# Altium footprint library Infineon_BC847C_1.PcbLib: 1 footprints
Each footprint in its own frame and in the unit in brackets; x right, y up, seen from the top. Pads: shape width x height; smd on the part's side, far side on the other; paste and mask are expansions set on the pad; w line width, h text height; cw(c..) or ccw(c..) is an arc to the next point about the centre after c.
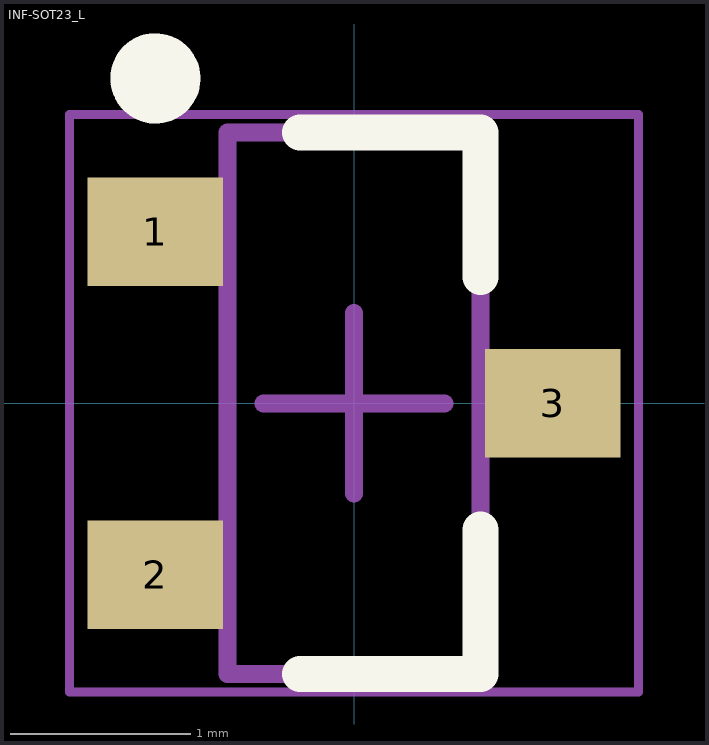
[diagram p0: the footprint, top view; thin cyan lines are the x and y axes]

## INF-SOT23_L [mm] "SOT23, 3-Leads, Body 2.9x1.3 mm, Pitch 0.95 mm, IPC High Density"
height 1.1
pads (3):
  rect 0.75x0.6 smd: 1(-1.1,0.95) 2(-1.1,-0.95) 3(1.1,0)
Top Overlay:
  circle w0.25: c-1.1,1.8 r0.125
  lines w0.2: -0.3,-1.5 0.7,-1.5 0.7,-0.7 ; -0.3,1.5 0.7,1.5 0.7,0.7
Mechanical 13:
  lines w0.1: -0.7,-1.5 -0.7,1.5 0.7,1.5 0.7,-1.5 -0.7,-1.5
Mechanical 15:
  lines w0.05: -1.575,-1.6 -1.575,1.6 1.575,1.6 1.575,-1.6 -1.575,-1.6
  lines w0.1: -0.5,0 0.5,0 ; 0,-0.5 0,0.5
3D body: height 1.1, standoff 0.1, extent -0.7,-1.5 0.7,1.5